# Altium schematic symbol library SAM-M8Q.SchLib: 1 symbol
Pins are listed as number, name and electrical type; pins without a type are passive.

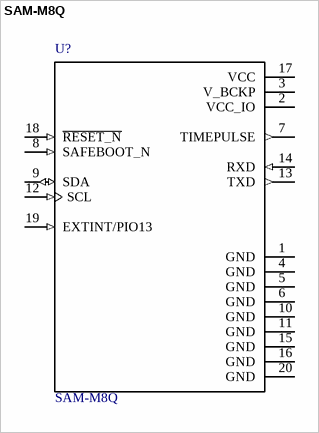
[diagram p0: symbol SAM-M8Q]

## SAM-M8Q
designator U?
u-Blox M8 Gnss Antenna Module; MF: U-Blox America; Digi-Key_Purchase_URL: https://www.digikey.com/product-detail/en/u-blox-america-inc/SAM-M8Q-0-10/672-1054-1-ND/7393573?utm_source=snapeda&utm_medium=aggregator&utm_campaign=symbol; Package: SMD-20 U-Blox America; MP: SAM-M8Q; SnapEDA_Link: https://www.snapeda.com/parts/SAM-M8Q/U-Blox%20America%20Inc./view-part/?ref=snap; Digi-Key_Part_Number: 672-1054-1-ND; Value: *
footprint *XCVR_SAM-M8Q
pins: 1 GND (power), 2 VCC_IO (power), 3 V_BCKP (power), 4 GND (power), 5 GND (power), 6 GND (power), 7 TIMEPULSE (out), 8 SAFEBOOT_N (in), 9 SDA (io), 10 GND (power), 11 GND (power), 12 SCL (in), 13 TXD (out), 14 RXD (in), 15 GND (power), 16 GND (power), 17 VCC (power), 18 ~{RESET_N} (in), 19 EXTINT/PIO13 (in), 20 GND (power)